# Altium schematic symbol library SMD-LED.SchLib: 1 symbol
Pins are listed as number, name and electrical type; pins without a type are passive.

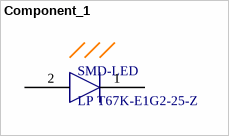
[diagram p0: symbol Component_1]

## Component_1
designator SMD-LED, comment LP T67K-E1G2-25-Z
Standard LEDs - SMD Pure Green, 560nm 2.8mcd, 2mA
footprint LP T67K-E1G2-25-Z
pins: 1 +, 2 -